# EAGLE library part TMP75BID (library BlueHome)
Temperature Sensor with I2C/SMBus Interface in Industry Standard LM75 Form Factor & Pinout 8-SOIC -40 to 125
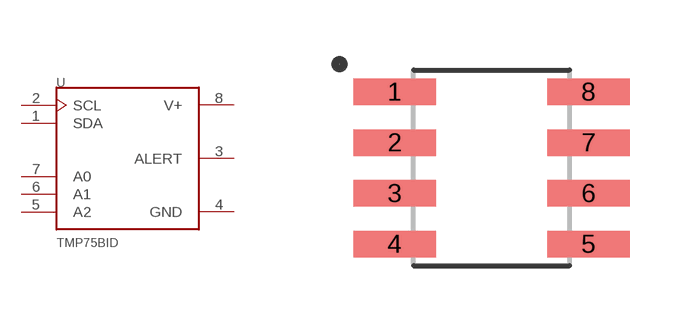
[diagram p5: symbol with the pads of SOIC127P600X175-8N; footprint SOIC127P600X175-8N]

Designator prefix U

## TMP75BID (AVAILABILITY: Unavailable; DESCRIPTION: 1.4V-Capable Temperature Sensor with I2C/SMBus Interface in LM75 Form Factor & Pinout 8-SOIC -55 to 125; MF: Texas Instruments; MP: TMP75BID; PACKAGE: SOIC-8 Texas Instruments; PRICE: None)  [SOIC127P600X175-8N]
1  SDA
2  SCL  in
3  ALERT  out
4  GND  pwr
5  A2  in
6  A1  in
7  A0  in
8  V+  pwr

## Footprint SOIC127P600X175-8N (pad centres in mm)
smd 2.07 x 0.66: 1 -2.425,1.905; 2 -2.425,0.635; 3 -2.425,-0.635; 4 -2.425,-1.905; 5 2.425,-1.905; 6 2.425,-0.635; 7 2.425,0.635; 8 2.425,1.905